# EAGLE library part 74HC238D (library 74HC238D)
Codeurs, dcodeurs, multiplexeurs et dmultiplexeurs 3-TO-8 DECODER DEMULTIPLEXER Source: Datasheet <https://assets.nexperia.com/documents/data-sheet/74HC_HCT238.pdf>
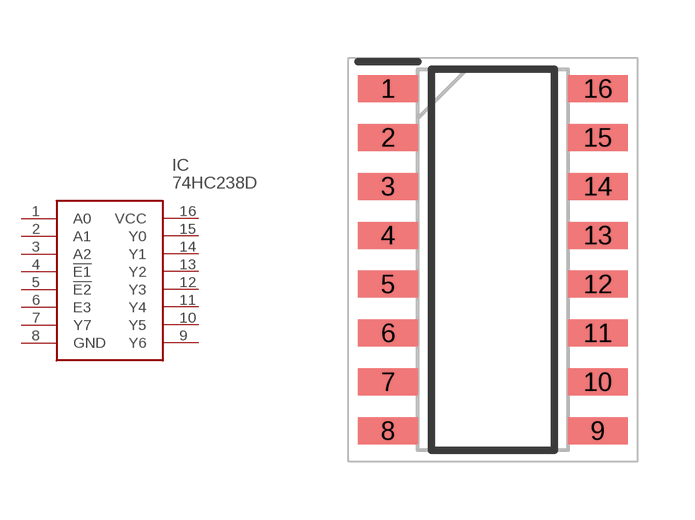
[diagram p0: symbol with the pads of SOIC127P600X175-16N; footprint SOIC127P600X175-16N]

Designator prefix IC

## 74HC238D (Description: Codeurs, dcodeurs, multiplexeurs et dmultiplexeurs 3-TO-8 DECODER DEMULTIPLEXER; Height: 1.75mm; Manufacturer_Name: Nexperia; Manufacturer_Part_Number: 74HC238D; Mouser_Part_Number: 771-74HC238D; Mouser_Price-Stock: https://www.mouser.co.uk/ProductDetail/Nexperia/74HC238D?qs=JTOGeJziEKGZLH3gr9jJBw%3D%3D)  [SOIC127P600X175-16N]
1  A0
2  A1
3  A2
4  !E1
5  !E2
6  E3
7  Y7
8  GND
9  Y6
10  Y5
11  Y4
12  Y3
13  Y2
14  Y1
15  Y0
16  VCC

## Footprint SOIC127P600X175-16N (pad centres in mm)
SOT 109-1(SO16)
smd 1.55 x 0.7: 1 -2.725,4.445; 2 -2.725,3.175; 3 -2.725,1.905; 4 -2.725,0.635; 5 -2.725,-0.635; 6 -2.725,-1.905; 7 -2.725,-3.175; 8 -2.725,-4.445; 9 2.725,-4.445; 10 2.725,-3.175; 11 2.725,-1.905; 12 2.725,-0.635; 13 2.725,0.635; 14 2.725,1.905; 15 2.725,3.175; 16 2.725,4.445